# EAGLE library part ST7735 (library EE445L)
Sitronix ST7735R 18-bit color, 1.8" TFT LCD display, 128*160, http://www.adafruit.com/products/358 // Backlight (pin 10) connected to +3.3 V // MISO (pin 9) PA4 (SSI0Rx) // SCK (pin 8) connected to PA2 (SSI0Clk) // MOSI (pin 7) connected to PA5 (SSI0Tx) // TFT_CS (pin 6) connected to PA3 (SSI0Fss) // CARD_CS (pin 5) connected to PD7 GPIO output(for SDC) // Data/Command (pin 4) connected to PA6 (GPIO), high for data, low for command // RESET (pin 3) connected to PA7 (GPIO) // VCC (pin 2) connected to +3.3 V // Gnd (pin 1) connected to ground
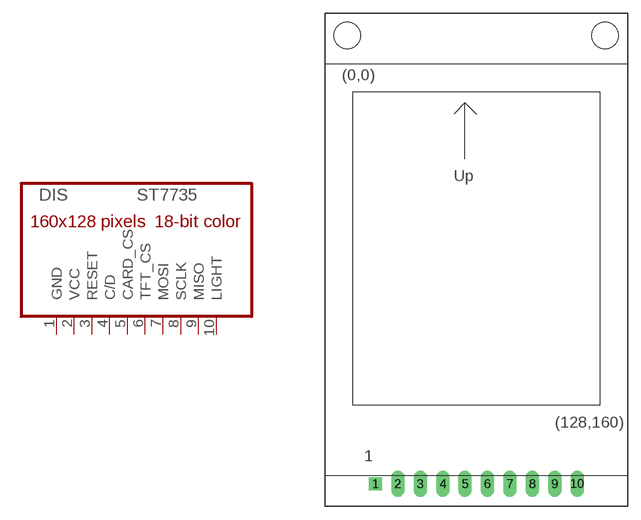
[diagram p24: symbol with the pads of ST7735; footprint ST7735]

Designator prefix DIS

## ST7735 (OC_FARNELL: unknown; OC_NEWARK: unknown)  [ST7735]
1  GND  pwr
2  VCC  pwr
3  RESET  in
4  C/D  in
5  CARD_CS  in
6  TFT_CS  in
7  MOSI  in
8  SCLK  in
9  MISO  out
10  LIGHT  pas

## Footprint ST7735 (pad centres in mm)
ST7735 LCD SamTec 10-pin LCD connector, BCS-110-L-S-TE Visible image is 1.1 by 1.4 inch Mounting hardware 5-56 screw
drill 1 square: 1 -10.16,-30.48
drill 1 long: 2 -7.62,-30.48; 3 -5.08,-30.48; 4 -2.54,-30.48; 5 0,-30.48; 6 2.54,-30.48; 7 5.08,-30.48; 8 7.62,-30.48; 9 10.16,-30.48; 10 12.7,-30.48
hole 3 at -13.335,20.32
hole 3 at 15.875,20.32